# EAGLE library part IS25LP128F-JKLE-TR (library IS25LP128F-JKLE-TR)
NOR Flash 128M 2.3-3.6V 166Mhz Serial NOR Flash Source: Datasheet <http://www.issi.com/WW/pdf/25LP-WP128F.pdf>
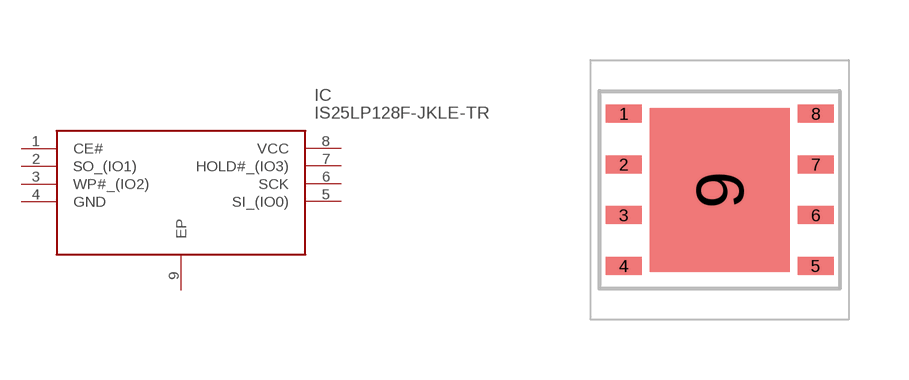
[diagram p0: symbol with the pads of SON127P500X595X80-9N; footprint SON127P500X595X80-9N]

Designator prefix IC

## IS25LP128F-JKLE-TR (DESCRIPTION: NOR Flash 128M 2.3-3.6V 166Mhz Serial NOR Flash; HEIGHT: 0.8mm; MANUFACTURER_NAME: Integrated Silicon Solution Inc.; MANUFACTURER_PART_NUMBER: IS25LP128F-JKLE-TR; MOUSER_PART_NUMBER: 870-IS25LP128FJKLETR; MOUSER_PRICE-STOCK: https://www.mouser.co.uk/ProductDetail/ISSI/IS25LP128F-JKLE-TR?qs=F5EMLAvA7IC8MN2X519UUw%3D%3D)  [SON127P500X595X80-9N]
1  CE#
2  SO_(IO1)
3  WP#_(IO2)
4  GND
5  SI_(IO0)
6  SCK
7  HOLD#_(IO3)
8  VCC
9  EP

## Footprint SON127P500X595X80-9N (pad centres in mm)
6 8 CONTACT ULTRA-THIN SMALL OUTLINE NO-LEAD (WSON) PACKAGE 6X5MM (K)
smd 0.9 x 0.45: 1 -2.4,1.905; 2 -2.4,0.635; 3 -2.4,-0.635; 4 -2.4,-1.905; 5 2.4,-1.905; 6 2.4,-0.635; 7 2.4,0.635; 8 2.4,1.905
smd 3.5 x 4.1: 9 0,0